# Altium footprint library libysk_passive.PcbLib: 22 footprints (part 1 of 2)
Each footprint in its own frame and in the unit in brackets; x right, y up, seen from the top. Pads: shape width x height; smd on the part's side, far side on the other; paste and mask are expansions set on the pad; w line width, h text height; cw(c..) or ccw(c..) is an arc to the next point about the centre after c.
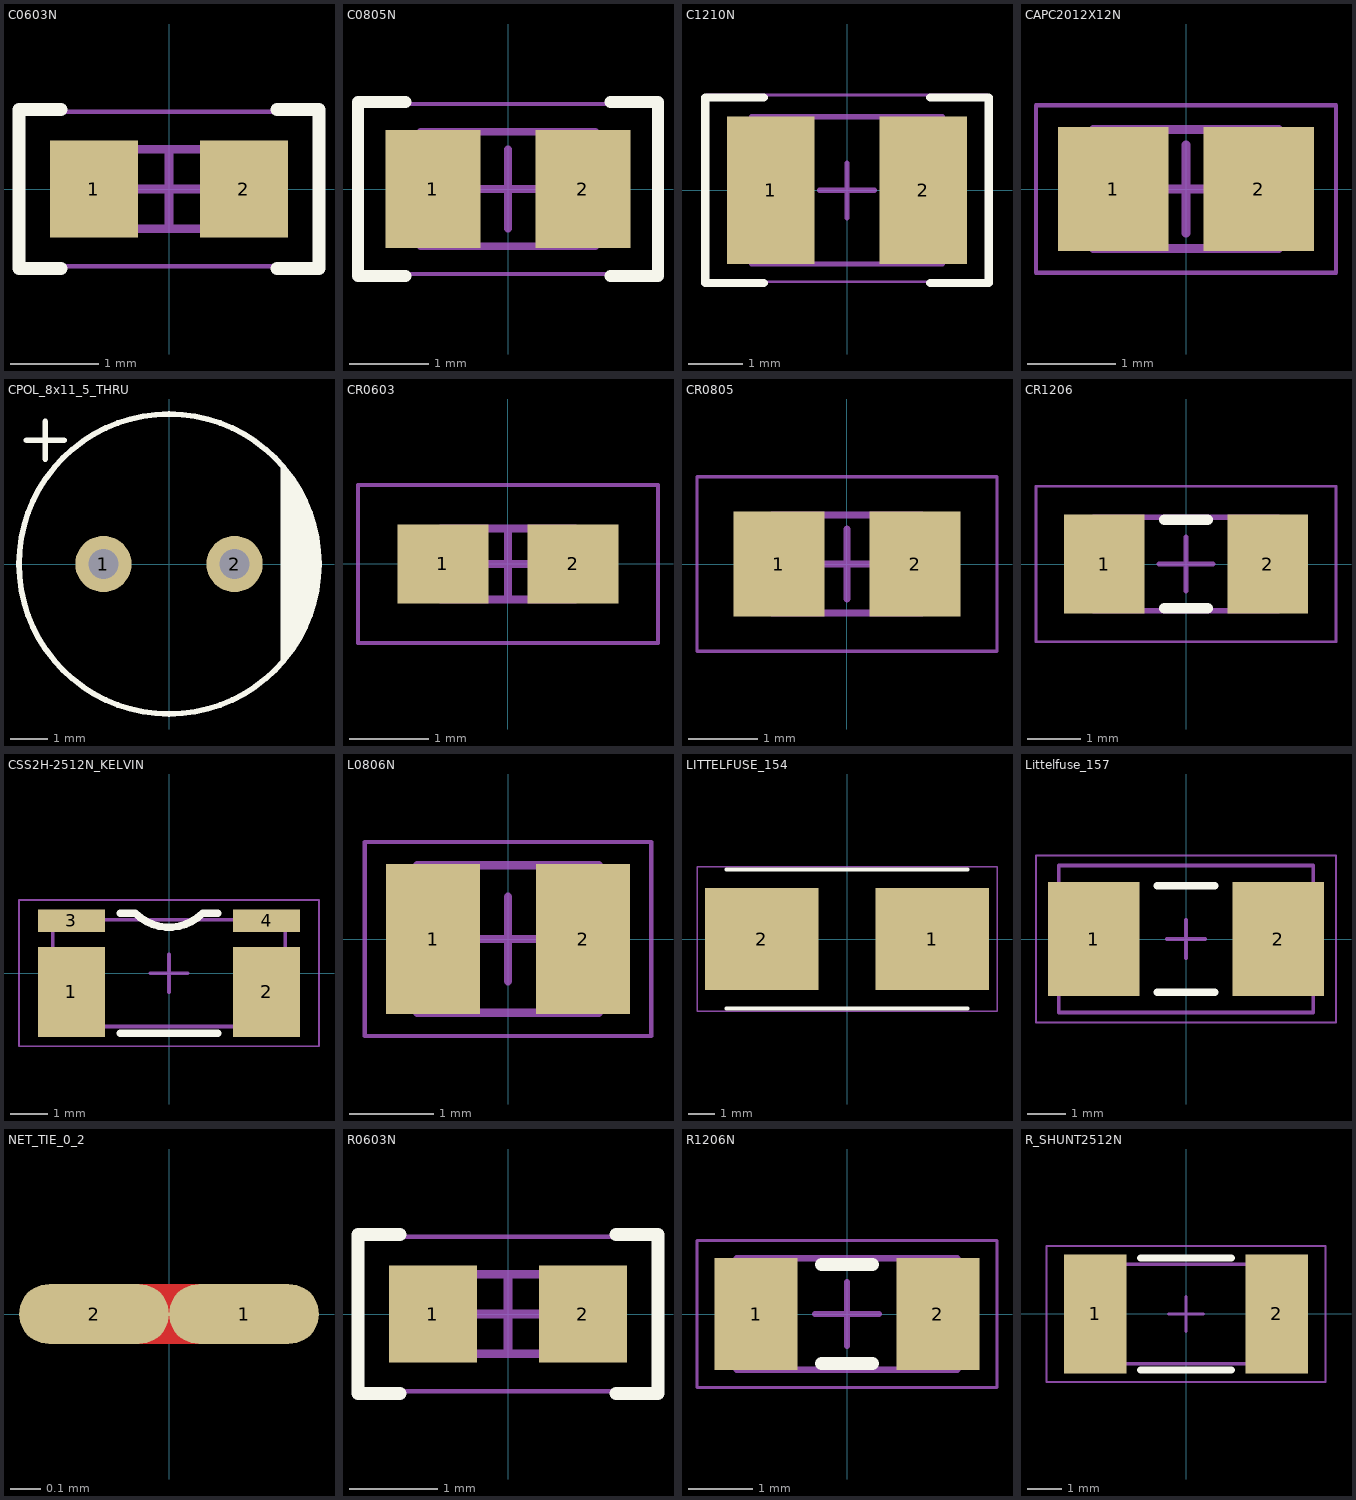
[diagram p0: the footprints below, top view; thin cyan lines are the x and y axes]

## C0603N [mm] "Chip Capacitor, 2-Leads, Body 1.60x0.80mm, IPC Medium Density"
height 0.8
pads (2):
  rect 1x1.1 smd: 1(-0.85,0) 2(0.85,0)
Top Overlay:
  lines w0.15: -1.225,-0.9 -1.7,-0.9 -1.7,0.9 -1.225,0.9 ; 1.225,-0.9 1.7,-0.9 1.7,0.9 1.225,0.9
Top 3D Body (Mech13):
  lines w0.1: -0.85,-0.45 -0.85,0.45 0.85,0.45 0.85,-0.45 -0.85,-0.45
Top Courtyard:
  lines w0.05: -1.675,-0.875 -1.675,0.875 1.675,0.875 1.675,-0.875 -1.675,-0.875
  lines w0.1: -0.45,0 0.45,0 ; 0,-0.45 0,0.45
3D body "C0603N.step": height 0.8, standoff 0, extent -0.85,-0.45 0.85,0.45

## C0805N [mm] "Chip Capacitor, 2-Leads, Body 2.00x1.25mm, IPC Medium Density"
height 1.45
pads (2):
  rect 1.2x1.5 smd: 1(-0.95,0) 2(0.95,0)
Top Overlay:
  lines w0.15: -1.3,-1.1 -1.9,-1.1 -1.9,1.1 -1.3,1.1 ; 1.3,-1.1 1.9,-1.1 1.9,1.1 1.3,1.1
Top 3D Body (Mech13):
  lines w0.1: -1.1,-0.725 -1.1,0.725 1.1,0.725 1.1,-0.725 -1.1,-0.725
Top Courtyard:
  lines w0.05: -1.875,-1.075 -1.875,1.075 1.875,1.075 1.875,-1.075 -1.875,-1.075
  lines w0.1: -0.5,0 0.5,0 ; 0,-0.5 0,0.5
3D body "C0805N.step": height 1.45, standoff 0, extent -1.1,-0.725 1.1,0.725

## C1210N [mm] "Chip Capacitor, 2-Leads, Body 3.20x2.50mm, IPC Medium Density"
height 2.5
pads (2):
  rect 1.6x2.7 smd: 1(-1.4,0) 2(1.4,0)
Top Overlay:
  lines w0.15: -1.525,-1.7 -2.6,-1.7 -2.6,1.7 -1.525,1.7 ; 1.525,-1.7 2.6,-1.7 2.6,1.7 1.525,1.7
Top 3D Body (Mech13):
  lines w0.1: -1.75,-1.35 1.75,-1.35 1.75,1.35 -1.75,1.35 -1.75,-1.35
Top Courtyard:
  lines w0.05: -2.575,-1.675 2.575,-1.675 2.575,1.75 -2.575,1.75 -2.575,-1.675
  lines w0.1: -0.5,0 0.5,0 ; 0,-0.5 0,0.5
3D body "C1210N.step": height 2.5, standoff 0, extent -1.75,-1.35 1.75,1.35

## CAPC2012X12N [mm] "Chip Capacitor, 2-Leads, Body 2.00x1.25mm, IPC Medium Density"
height 1.25
pads (2):
  rect 1.25x1.4 smd: 1(-0.825,0) 2(0.825,0)
Top 3D Body (Mech13):
  lines w0.1: -1.05,-0.675 1.05,-0.675 1.05,0.675 -1.05,0.675 -1.05,-0.675
Top Courtyard:
  lines w0.05: -1.7,-0.95 1.7,-0.95 1.7,0.95 -1.7,0.95 -1.7,-0.95
  lines w0.1: -0.5,0 0.5,0 ; 0,-0.5 0,0.5
3D body "CAPC2012X12N.step": height 1.25, standoff 0, extent -1.05,-0.675 1.05,0.675

## CPOL_8x11_5_THRU [mm] "Capacitor with polarity, Radial lead, D=5mm, H=11mm, Pitch 5mm, Through-hole"
pads (2):
  round 1.5 hole 0.8: 1(-1.75,0) 2(1.75,0)
Top Overlay:
  circle w0.15: c0,0 r4
  region: 2.996,-2.651 2.996,2.651 3.156,2.47 3.431,2.072 3.655,1.643 3.826,1.191 3.942,0.722 4,0.242 4,-0.242 3.942,-0.722 3.826,-1.191 3.655,-1.643 3.431,-2.072 3.156,-2.47
  lines w0: 2.996,-2.651 ccw(c0,0) 2.996,2.651 2.996,-2.651
  lines w0.15: -3.8,3.3 -2.8,3.3 ; -3.3,2.8 -3.3,3.8
3D body "CPOL-D8-H11_5-P3_5.stp": height 13.01, standoff -2, extent -4,-3.998 4.01,3.998

## CR0603 [mm] "Bourns Chip Resistor, CR Series, 2-Leads, Body 1.60x0.80mm, IPC Low Density"
height 0.55
pads (2):
  rect 1.15x1 smd: 1(-0.825,0) 2(0.825,0)
Top 3D Body (Mech13):
  lines w0.1: -0.85,-0.45 -0.85,0.45 0.85,0.45 0.85,-0.45 -0.85,-0.45
Top Courtyard:
  lines w0.05: -1.9,-1 -1.9,1 1.9,1 1.9,-1 -1.9,-1
  lines w0.1: -0.45,0 0.45,0 ; 0,-0.45 0,0.45
3D body "RESC1608X06M.step": height 0.55, standoff 0, extent -0.85,-0.45 0.85,0.45

## CR0805 [mm] "Bourns Chip Resistor, CR Series, 2-Leads, Body 2.00x1.25mm, IPC Low Density"
height 0.6
pads (2):
  rect 1.3x1.5 smd: 1(-0.975,0) 2(0.975,0)
Top 3D Body (Mech13):
  lines w0.1: -1.075,-0.7 1.075,-0.7 1.075,0.7 -1.075,0.7 -1.075,-0.7
Top Courtyard:
  lines w0.05: -2.15,-1.25 2.15,-1.25 2.15,1.25 -2.15,1.25 -2.15,-1.25
  lines w0.1: -0.5,0 0.5,0 ; 0,-0.5 0,0.5
3D body "RESC2012X06M.step": height 0.6, standoff 0, extent -1.075,-0.7 1.075,0.7

## CR1206 [mm] "Bourns Chip Resistor, CR Series, 2-Leads, Body 3.20x1.60mm, IPC Low Density"
height 0.75
pads (2):
  rect 1.5x1.85 smd: 1(-1.525,0) 2(1.525,0)
Top Overlay:
  lines w0.2: -0.4,-0.825 0.4,-0.825 ; -0.4,0.825 0.4,0.825
Top 3D Body (Mech13):
  lines w0.1: -1.725,-0.875 1.725,-0.875 1.725,0.875 -1.725,0.875 -1.725,-0.875
Top Courtyard:
  lines w0.05: -2.8,-1.45 2.8,-1.45 2.8,1.45 -2.8,1.45 -2.8,-1.45
  lines w0.1: -0.5,0 0.5,0 ; 0,-0.5 0,0.5
3D body "RESC3216X08M.step": height 0.75, standoff 0, extent -1.725,-0.875 1.725,0.875

## CSS2H-2512N_KELVIN [mm]
pads (4):
  rect 1.8x2.4 smd paste+0: 1(-2.6,-0.5) 2(2.6,-0.5)
  rect 1.8x0.6 smd paste+0: 3(-2.6,1.4) 4(2.6,1.4)
Top Overlay:
  lines w0.2: -1.3,-1.6 1.3,-1.6 ; -1.3,1.6 -0.9,1.6 ccw(c0,2.5) 0.9,1.6 1.3,1.6
Top 3D Body (Mech13):
  lines w0.1: -3.1,-1.425 -3.1,1.425 3.1,1.425 3.1,-1.425 -3.1,-1.425
Top Courtyard:
  lines w0.05: -4,-1.95 -4,1.95 4,1.95 4,-1.95 -4,-1.95
  lines w0.1: -0.5,0 0.5,0 ; 0,-0.5 0,0.5
3D body "CSS2H-2512.stp": height 0.83, standoff 0, extent -3.175,-1.525 3.175,1.525

## L0806N [mm] "Chip Inductor, 2-Leads, Body 2.00x1.60mm, IPC Medium Density"
height 1
pads (2):
  rect 1.12x1.78 smd: 1(-0.89,0) 2(0.89,0)
Top 3D Body (Mech13):
  lines w0.1: -1.075,-0.875 1.075,-0.875 1.075,0.875 -1.075,0.875 -1.075,-0.875
Top Courtyard:
  lines w0.05: -1.7,-1.15 1.7,-1.15 1.7,1.15 -1.7,1.15 -1.7,-1.15
  lines w0.1: -0.5,0 0.5,0 ; 0,-0.5 0,0.5
3D body "L0806N.step": height 1, standoff 0, extent -1.075,-0.875 1.075,0.875

## LITTELFUSE_154 [mm]
pads (2):
  rect 4.24x3.81 smd paste+0: 1(3.185,0) 2(-3.185,0)
Top Overlay:
  lines w0.15: -4.5,-2.6 4.5,-2.6 ; -4.5,2.6 4.5,2.6
Top Courtyard:
  lines w0.05: -5.6,-2.7 5.6,-2.7 5.6,2.7 -5.6,2.7 -5.6,-2.7
3D body "User Library-OMNI-BLOK littelfuse.STEP": height 3.81, standoff 0, extent -4.915,-2.515 4.915,2.515

## Littelfuse_157 [mm] "Surface ount Fuse Assy, 2-Leads, Body 6.10x2.69mm, IPC Medium Density"
height 4
pads (2):
  rect 2.4x3 smd: 1(-2.43,0) 2(2.43,0)
Top Overlay:
  lines w0.2: -0.75,-1.4 0.75,-1.4 ; -0.75,1.4 0.75,1.4
Top 3D Body (Mech13):
  lines w0.1: -3.35,-1.935 -3.35,1.935 3.35,1.935 3.35,-1.935 -3.35,-1.935
Top Courtyard:
  lines w0.05: -3.95,-2.2 -3.95,2.2 3.95,2.2 3.95,-2.2 -3.95,-2.2
  lines w0.1: -0.5,0 0.5,0 ; 0,-0.5 0,0.5
3D body "Littelfuse_157_IPC.step": height 4, standoff 0, extent -3.35,-1.935 3.35,1.935

## NET_TIE_0_2 [mm] "Net tie, 0.2mm width"
pads (2):
  oval 0.5x0.2 smd paste+0 mask+0: 1(0.25,0) 2(-0.25,0)
Top Layer:
  lines w0.2: -0.1,0 0.1,0

## R0603N [mm] "Chip Resistor, 2-Leads, Body 1.60x0.80mm, IPC Medium Density"
height 0.45
pads (2):
  rect 1x1.1 smd: 1(-0.85,0) 2(0.85,0)
Top Overlay:
  lines w0.15: -1.225,-0.9 -1.7,-0.9 -1.7,0.9 -1.225,0.9 ; 1.225,-0.9 1.7,-0.9 1.7,0.9 1.225,0.9
Top 3D Body (Mech13):
  lines w0.1: -0.85,-0.45 -0.85,0.45 0.85,0.45 0.85,-0.45 -0.85,-0.45
Top Courtyard:
  lines w0.05: -1.675,-0.875 -1.675,0.875 1.675,0.875 1.675,-0.875 -1.675,-0.875
  lines w0.1: -0.45,0 0.45,0 ; 0,-0.45 0,0.45
3D body "R0603N.step": height 0.45, standoff 0, extent -0.85,-0.45 0.85,0.45

## R1206N [mm] "Chip Resistor, 2-Leads, Body 3.20x1.60mm, IPC Medium Density"
height 0.75
pads (2):
  rect 1.3x1.75 smd: 1(-1.425,0) 2(1.425,0)
Top Overlay:
  lines w0.2: -0.4,-0.775 0.4,-0.775 ; -0.4,0.775 0.4,0.775
Top 3D Body (Mech13):
  lines w0.1: -1.725,-0.875 1.725,-0.875 1.725,0.875 -1.725,0.875 -1.725,-0.875
Top Courtyard:
  lines w0.05: -2.35,-1.15 2.35,-1.15 2.35,1.15 -2.35,1.15 -2.35,-1.15
  lines w0.1: -0.5,0 0.5,0 ; 0,-0.5 0,0.5
3D body "R1206N.step": height 0.75, standoff 0, extent -1.725,-0.875 1.725,0.875

## R_SHUNT2512N [mm] "Chip Resistor, 2-Leads, Body 6.35x3.05mm, IPC Medium Density"
height 1.23
pads (2):
  rect 1.8x3.4 smd: 1(-2.6,0) 2(2.6,0)
Top Overlay:
  lines w0.2: -1.3,-1.6 1.3,-1.6 ; -1.3,1.6 1.3,1.6
Top 3D Body (Mech13):
  lines w0.1: -3.1,-1.425 3.1,-1.425 3.1,1.425 -3.1,1.425 -3.1,-1.425
Top Courtyard:
  lines w0.05: -4,-1.95 4,-1.95 4,1.95 -4,1.95 -4,-1.95
  lines w0.1: -0.5,0 0.5,0 ; 0,-0.5 0,0.5
3D body "R_SHUNT2512N.step": height 1.23, standoff 0, extent -3.1,-1.425 3.1,1.425